# Altium schematic symbol library Sajad_Altium_Library.SchLib: 340 symbols (part 4 of 4)
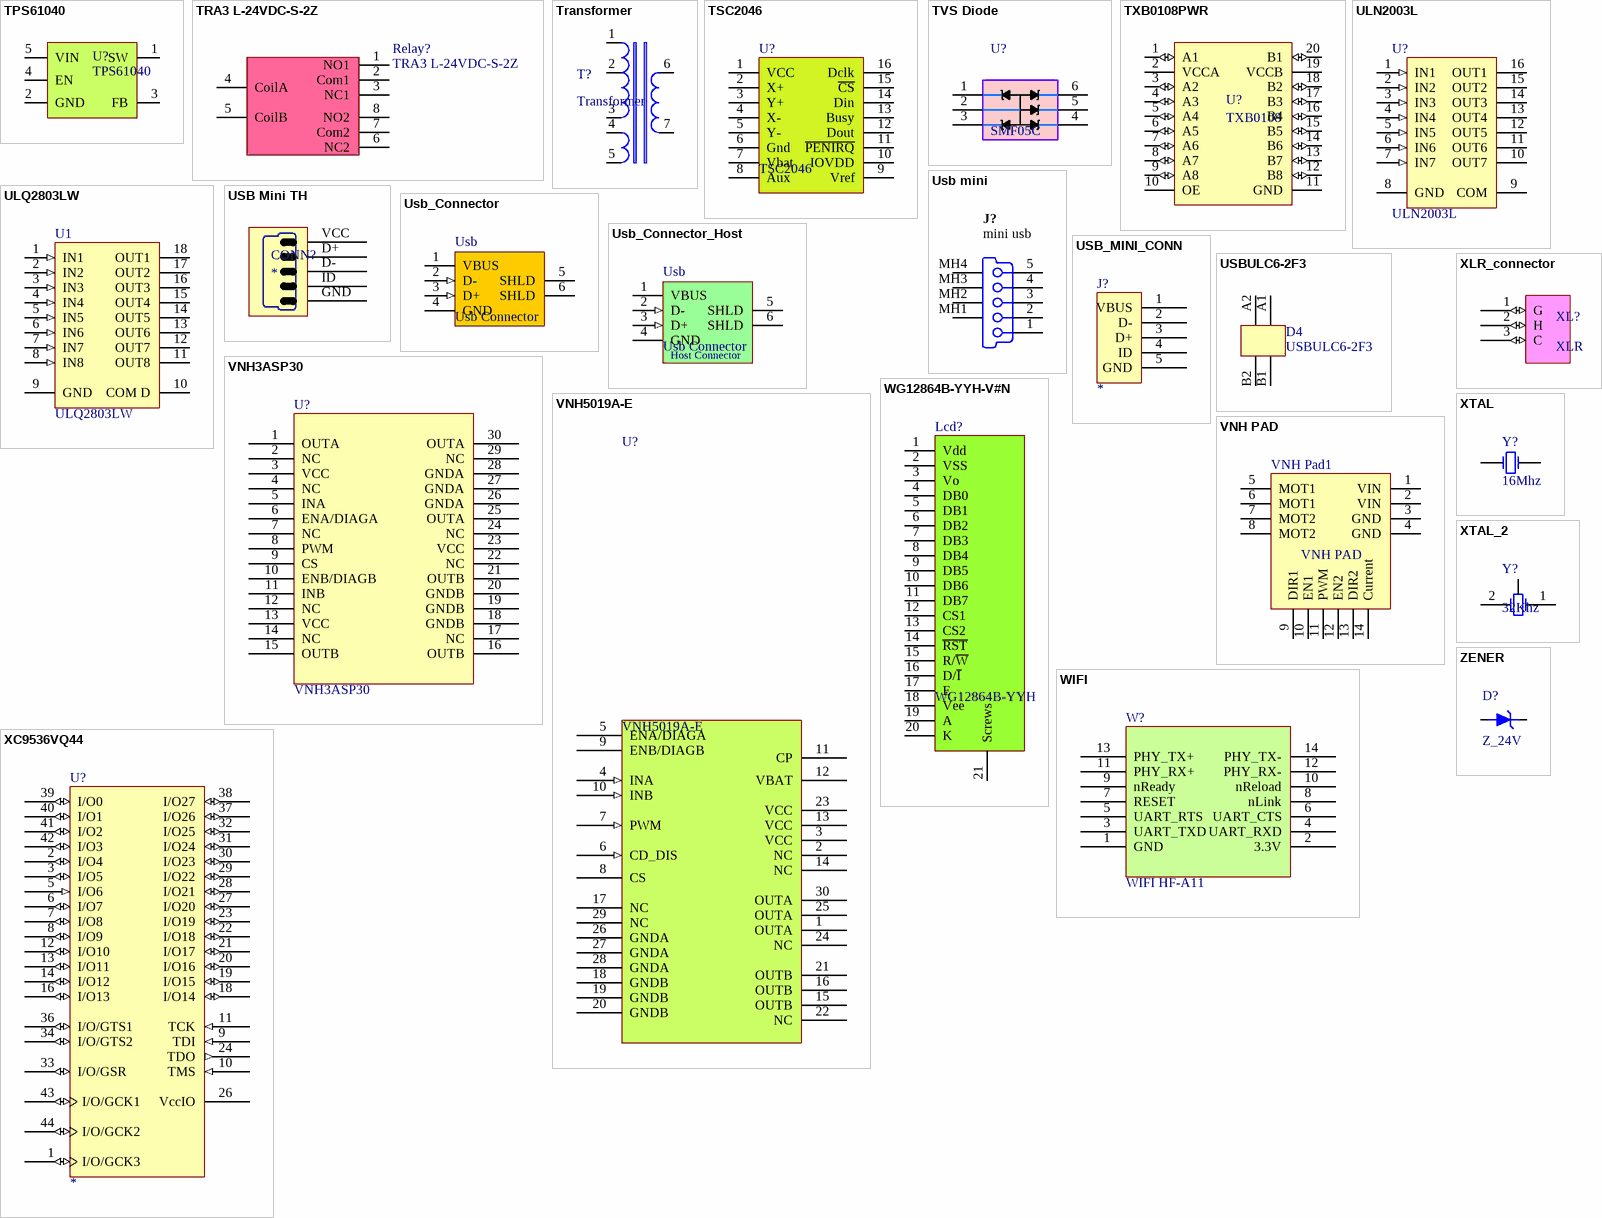
[diagram p20: symbols TPS61040 to ZENER]

## Usb_Connector_Host
designator Usb, comment Usb Connector
On Board Usb Connector; Published: 15-Apr-2002; DatasheetVersion: Jul-1999; PackageVersion: Jul-1999; PackageReference: 314D-03; Publisher: Altium Limited; PackageDescription: TO, Thru-Hole, Vertical, Heatsink Mounted; 5 In-Line Leads; Pitch 1.70 mm; Code_JEDEC: TS-001-AA; ComponentLink1Description: Manufacturer Link; ComponentLink1URL: http://www.onsemi.com/site/products/taxonomy/0,4438,503,00.html; ComponentLink2Description: Datasheet; ComponentLink2URL: http://www.onsemi.com/pub/Collateral/LM2576-D.PDF
footprint USB2.5-2H4 (Connector; USB1.1, Series A, Reverse Type, Thru-Hole; 4 Position; Right Angle)
pins: 1 VBUS (power), 2 D- (in), 3 D+ (in), 4 GND (power), 5 SHLD (power), 6 SHLD (power)
text: Host Connector

## USB_MINI_CONN
designator J?
USB Mini Connector
footprint KMBSMT5SS30
pins: 1 VBUS (power), 2 D-, 3 D+, 4 ID, 5 GND (power)

## USBULC6-2F3
designator D4
footprint BGA4_0R4_1X1 (Footprint not found)
pins: A1, A2, B1, B2

## VNH3ASP30
designator U?
footprint VNH3ASP30-E
pins: 1 OUTA, 2 NC, 3 VCC, 4 NC, 5 INA, 6 ENA/DIAGA, 7 NC, 8 PWM, 9 CS, 10 ENB/DIAGB, 11 INB, 12 NC, 13 VCC, 14 NC, 15 OUTB, 16 OUTB, 17 NC, 18 GNDB, 19 GNDB, 20 GNDB, 21 OUTB, 22 NC, 23 VCC, 24 NC, 25 OUTA, 26 GNDA, 27 GNDA, 28 GNDA, 29 NC, 30 OUTA

## VNH5019A-E
designator U?
Automotive fully integrated   H-bridge motor driver
footprint MultiPowerSO-30
pins: 1 OUTA, 2 NC, 3 VCC, 4 INA (in), 5 ENA/DIAGA, 6 CD_DIS (in), 7 PWM (in), 8 CS, 9 ENB/DIAGB, 10 INB (in), 11 CP, 12 VBAT, 13 VCC, 14 NC, 15 OUTB, 16 OUTB, 17 NC, 18 GNDB, 19 GNDB, 20 GNDB, 21 OUTB, 22 NC, 23 VCC, 24 NC, 25 OUTA, 26 GNDA, 27 GNDA, 28 GNDA, 29 NC, 30 OUTA

## VNH PAD
designator VNH Pad1
footprint VNH_PAD
pins: 1 VIN, 2 VIN, 3 GND, 4 GND, 5 MOT1, 6 MOT1, 7 MOT2, 8 MOT2, 9 DIR1, 10 EN1, 11 PWM, 12 EN2, 13 DIR2, 14 Current

## WG12864B-YYH-V#N
designator Lcd?, comment WG12864B-YYH
WINSTAR LCD 128X48 Module
footprint WG12864B-YYH (Lcd Module)
pins: 1 Vdd, 2 VSS, 3 Vo, 4 DB0, 5 DB1, 6 DB2, 7 DB3, 8 DB4, 9 DB5, 10 DB6, 11 DB7, 12 CS1, 13 CS2, 14 ~{RST}, 15 R/~{W}, 16 D/~{I}, 17 E, 18 Vee, 19 A, 20 K, 21 Screws

## WIFI
designator W?, comment WIFI HF-A11
footprint HF-A11 Wifi Module
pins: 1 GND, 2 3.3V, 3 UART_TXD, 4 UART_RXD, 5 UART_RTS, 6 UART_CTS, 7 RESET, 8 nLink, 9 nReady, 10 nReload, 11 PHY_RX+, 12 PHY_RX-, 13 PHY_TX+, 14 PHY_TX-
2 alternate drawings of the same symbol

## XC9536VQ44
designator U?
Xilinx 9500 Series 44 pin VQFP
footprint TQFP44
pins: 1 I/O/GCK3 (io), 2 I/O4 (io), 3 I/O5 (io), 4 GND (power) hidden to GND, 5 I/O6 (in), 6 I/O7 (io), 7 I/O8 (io), 8 I/O9 (io), 9 TDI (in), 10 TMS (in), 11 TCK (in), 12 I/O10 (io), 13 I/O11 (io), 14 I/O12 (io), 15 VCC (power) hidden to VCC, 16 I/O13 (io), 17 GND (power) hidden to GND, 18 I/O14 (io), 19 I/O15 (io), 20 I/O16 (io), 21 I/O17 (io), 22 I/O18 (io), 23 I/O19 (io), 24 TDO (out), 25 GND (power) hidden to GND, 26 VccIO (power), 27 I/O20 (io), 28 I/O21 (io), 29 I/O22 (io), 30 I/O23 (io), 31 I/O24 (io), 32 I/O25 (io), 33 I/O/GSR (io), 34 I/O/GTS2 (io), 35 VCC (power) hidden to VCC, 36 I/O/GTS1 (io), 37 I/O26 (io), 38 I/O27 (io), 39 I/O0 (io), 40 I/O1 (io), 41 I/O2 (io), 42 I/O3 (io), 43 I/O/GCK1 (io), 44 I/O/GCK2 (io)

## XLR_connector
designator XL?, comment XLR
XLR connector
footprint XLR
footprint XLR_PCB
pins: 1 G (io), 2 H (io), 3 C (io)

## XTAL
designator Y?, comment 16Mhz
Crystal Oscillator; Published: 8-Jun-2000; LatestRevisionDate: 17-Jul-2002; LatestRevisionNote: Re-released for DXP Platform.; PackageReference: R38; Publisher: Altium Limited
footprint Crystal (16 Mhz Crystal footprint)
footprint Crystal_smd (16 Mhz Crystal footprint)
footprint 32748CRYSTAL
pins: 1 OSC1, 2 OSC2

## XTAL_2
designator Y?, comment 32Khz
Crystal Oscillator; Published: 8-Jun-2000; LatestRevisionDate: 17-Jul-2002; LatestRevisionNote: Re-released for DXP Platform.; PackageReference: R38; Publisher: Altium Limited
footprint 32748CRYSTAL
pins: 1 OSC1, 2 OSC2, 3 Gnd "Chasis"

## ZENER
designator D?, comment Z_24V
Zener Diode
footprint mini melf (1n4148 smd)
footprint SOD123 (Sod123)
pins: 1 A, 2 K